# EAGLE library part 2MM-M08 (library comma.ai)
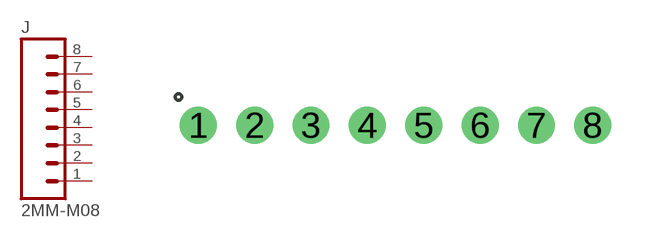
[diagram p25: symbol with the pads of 2MM-M08; footprint 2MM-M08]

Designator prefix J

## 2MM-M08  [2MM-M08]
1  1  pas
2  2  pas
3  3  pas
4  4  pas
5  5  pas
6  6  pas
7  7  pas
8  8  pas

## Footprint 2MM-M08 (pad centres in mm)
drill 0.8: 1 -6,0; 2 -4,0; 3 -2,0; 4 0,0; 5 2,0; 6 4,0; 7 6,0; 8 8,0